# EAGLE library part REED-4PST (library divers)
Reed relay 4PST Electronic applications company 044AY*250DAC 51190509-002
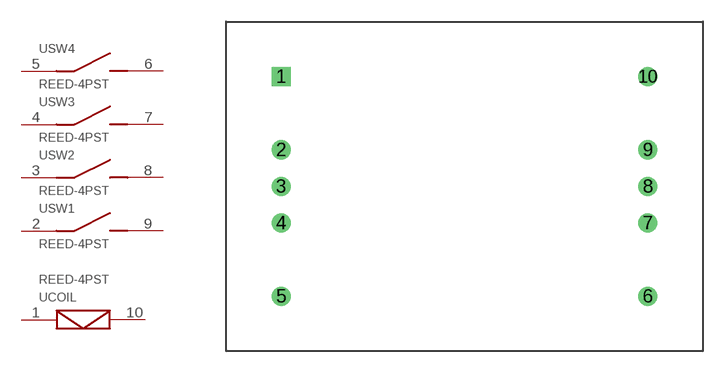
[diagram p1: symbol with the pads of REED-4PST; footprint REED-4PST]

Designator prefix -; gates COIL=REED-COIL SW1=REED-SW SW2=REED-SW SW3=REED-SW SW4=REED-SW

## REED-4PST  [REED-4PST]
1  COIL:COIL1  pas
2  SW1:SW1  pas
3  SW2:SW1  pas
4  SW3:SW1  pas
5  SW4:SW1  pas
6  SW4:SW2  pas
7  SW3:SW2  pas
8  SW2:SW2  pas
9  SW1:SW2  pas
10  COIL:COIL2  pas

## Footprint REED-4PST (pad centres in mm)
Reed relay 4PST Electronic applications company 044AY*250DAC 51190509-002
drill 0.813 square: 1 0,15.24
drill 0.813 round: 2 0,10.16; 3 0,7.62; 4 0,5.08; 5 0,0; 6 25.4,0; 7 25.4,5.08; 8 25.4,7.62; 9 25.4,10.16; 10 25.4,15.24